# Altium footprint library WE-TCI.PcbLib: 2 footprints
Each footprint in its own frame and in the unit in brackets; x right, y up, seen from the top. Pads: shape width x height; smd on the part's side, far side on the other; paste and mask are expansions set on the pad; w line width, h text height; cw(c..) or ccw(c..) is an arc to the next point about the centre after c.
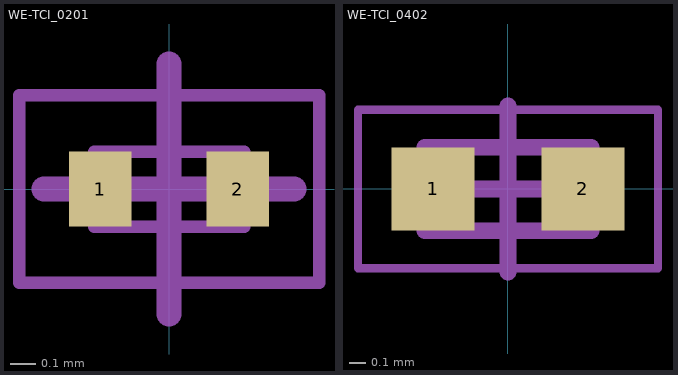
[diagram p0: the footprints below, top view; thin cyan lines are the x and y axes]

## WE-TCI_0201 [mm] "Thinfilm Chip Inductor, 2-leads, body 0.60x0.30mm"
height 0.28
pads (2):
  rect 0.25x0.3 smd: 1(-0.275,0) 2(0.275,0)
Top Assembly:
  lines w0.05: -0.3,-0.15 -0.3,0.15 0.3,0.15 0.3,-0.15 -0.3,-0.15
Top Designator:
  text ".Designator" at -3.647,-0.357 h1
Top Courtyard:
  lines w0.05: -0.6,-0.375 -0.6,0.375 0.6,0.375 0.6,-0.375 -0.6,-0.375
Top Component Center:
  lines w0.1: -0.5,0 0.5,0 ; 0,-0.5 0,0.5
3D body "WE-TCI_0201.stp": height 0.23, standoff 0, extent -0.3,-0.15 0.3,0.15

## WE-TCI_0402 [mm] "Thinfilm Chip Inductor, 2-leads, body 1.00x0.50mm"
height 0.37
pads (2):
  rect 0.5x0.5 smd: 1(-0.45,0) 2(0.45,0)
Top Assembly:
  lines w0.1: -0.5,-0.25 0.5,-0.25 0.5,0.25 -0.5,0.25 -0.5,-0.25
Top Designator:
  text ".Designator" at -3.647,-0.357 h1
Top Courtyard:
  lines w0.05: -0.9,-0.475 -0.9,0.475 0.9,0.475 0.9,-0.475 -0.9,-0.475
Top Component Center:
  lines w0.1: -0.5,0 0.5,0 ; 0,-0.5 0,0.5
3D body "0402_744901022.stp": height 0.32, standoff 0, extent -0.5,-0.25 0.5,0.25